# Altium footprint library SODFL1006X40N.PcbLib: 1 footprints
Each footprint in its own frame and in the unit in brackets; x right, y up, seen from the top. Pads: shape width x height; smd on the part's side, far side on the other; paste and mask are expansions set on the pad; w line width, h text height; cw(c..) or ccw(c..) is an arc to the next point about the centre after c.
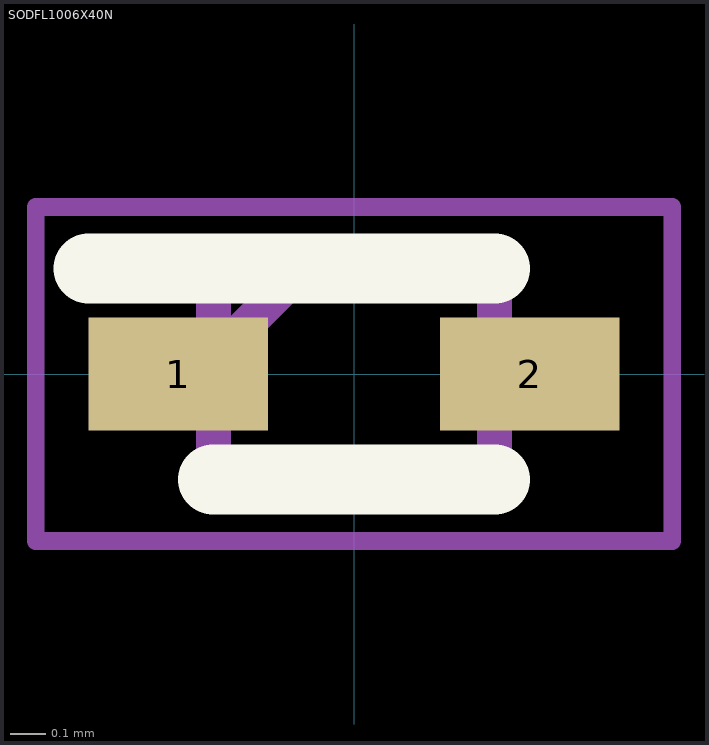
[diagram p0: the footprint, top view; thin cyan lines are the x and y axes]

## SODFL1006X40N [mm]
pads (2):
  rect 0.51x0.32 smd: 1(-0.5,0) 2(0.5,0)
Top Overlay:
  lines w0.2: -0.755,0.3 0.4,0.3 ; -0.4,-0.3 0.4,-0.3
Mechanical 15:
  lines w0.1: -0.4,0.045 -0.145,0.3 ; -0.4,-0.3 0.4,-0.3 0.4,0.3 -0.4,0.3 -0.4,-0.3
Mechanical 20:
  lines w0.05: -0.905,-0.475 0.905,-0.475 0.905,0.475 -0.905,0.475 -0.905,-0.475